# Altium schematic symbol library SCH - POWER - LINEAR VREG - TI TLV75533DRV.SchLib: 1 symbol
Pins are listed as number, name and electrical type; pins without a type are passive.

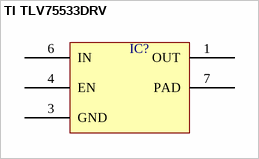
[diagram p0: symbol TI TLV75533DRV]

## TI TLV75533DRV
designator IC?  (value not drawn)
pins: 1 OUT, 3 GND, 4 EN, 6 IN, 7 PAD